# Altium footprint library CAP_TH_5X12_L5.PcbLib: 2 footprints
Each footprint in its own frame and in the unit in brackets; x right, y up, seen from the top. Pads: shape width x height; smd on the part's side, far side on the other; paste and mask are expansions set on the pad; w line width, h text height; cw(c..) or ccw(c..) is an arc to the next point about the centre after c.
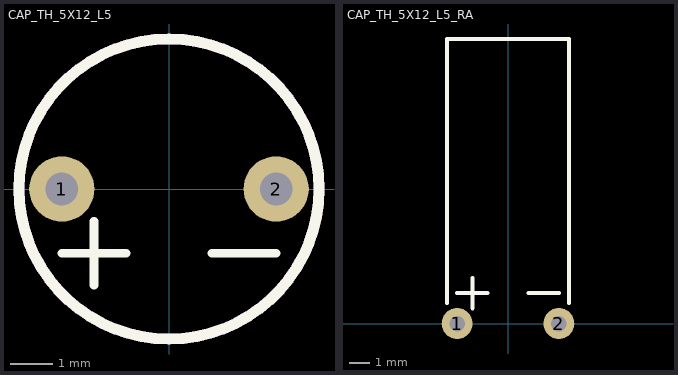
[diagram p0: the footprints below, top view; thin cyan lines are the x and y axes]

## CAP_TH_5X12_L5 [mil] "Cap, Aluminum Electrolytic, 5mm Lead Spacing, 12mm Height, Vertical Mount"
height 472.44
pads (2):
  round 60 hole 30: 1(-98.43,0) 2(98.43,0)
Top Overlay:
  circle w10: c0,0 r137.8
  lines w7.87: -98.43,-59.06 -39.37,-59.06 ; -68.9,-88.58 -68.9,-29.53 ; 39.37,-59.06 98.43,-59.06
Assembly-Top:
  circle w10: c0,0 r137.8
  circle w10: c0,0 r137.8
  text ".Designator" at -59.06,9.84 h60
3D body: height 472.44, standoff 0, extent -124.01,-123.89 124.02,123.9

## CAP_TH_5X12_L5_RA [mil] "Cap, Aluminum Electrolytic, 5mm Lead Spacing, 12mm Height, Right Angle Mount"
height 236.22
pads (2):
  round 60 hole 30: 1(-98.43,0) 2(98.43,0)
Top Overlay:
  lines w7.87: -118.11,39.37 -118.11,551.18 118.11,551.18 118.11,39.37 ; -98.43,59.06 -39.37,59.06 ; -68.9,29.53 -68.9,88.58 ; 39.37,59.06 98.43,59.06
Assembly-Top:
  lines w7.87: -118.11,39.37 -118.11,551.18 118.11,551.18 118.11,39.37
  text ".Designator" at -19.68,452.76 h60
3D body: height 247.91, standoff 0.12, extent -124.02,78.74 124.02,551.18